# EAGLE library part CHIPCAP2 (library common)
Temp+Humidity sensor
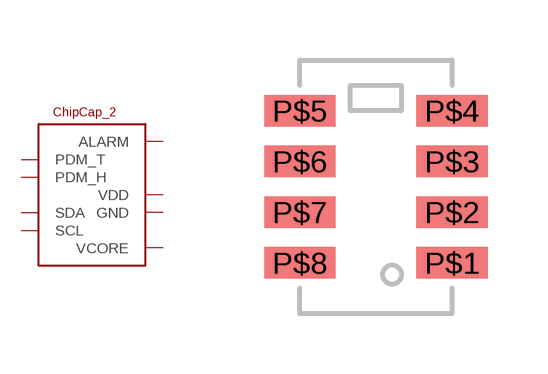
[diagram p17: symbol with the pads of CHIPCAP2; footprint CHIPCAP2]

Designator prefix -

## CHIPCAP2  [CHIPCAP2]
P$1  PDM_T
P$2  PDM_H
P$3  SDA
P$4  SCL
P$5  VCORE  pas
P$6  GND  pwr
P$7  VDD  pwr
P$8  ALARM  out

## Footprint CHIPCAP2 (pad centres in mm)
Temp+humidity sensor
smd 1.778 x 0.787: P$1 1.905,-1.27; P$2 1.905,0; P$3 1.905,1.27; P$4 1.905,2.54; P$5 -1.905,2.54; P$6 -1.905,1.27; P$7 -1.905,0; P$8 -1.905,-1.27